# Altium schematic symbol library Resistors.SchLib: 3 symbols
Pins are listed as number, name and electrical type; pins without a type are passive.

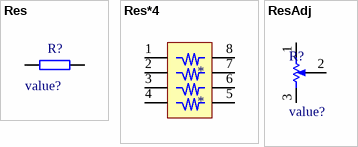
[diagram p0: symbols Res to ResAdj]

## Res
designator R?, comment value?
value: value?
footprint LC-0805_R
footprint LC-0603_R
footprint LC-0402_R
pins: 1, 2

## Res*4
designator *
footprint LC-0603_Rx4
pins: 1, 2, 3, 4, 5, 6, 7, 8

## ResAdj
designator R?, comment value?
value: value?
footprint ResAdj
footprint ResAdj-1
footprint adj_3p_v1
pins: 1, 2, 3